# Altium footprint library NXP TSSOP-20.PCBLIB: 1 footprints
Each footprint in its own frame and in the unit in brackets; x right, y up, seen from the top. Pads: shape width x height; smd on the part's side, far side on the other; paste and mask are expansions set on the pad; w line width, h text height; cw(c..) or ccw(c..) is an arc to the next point about the centre after c.
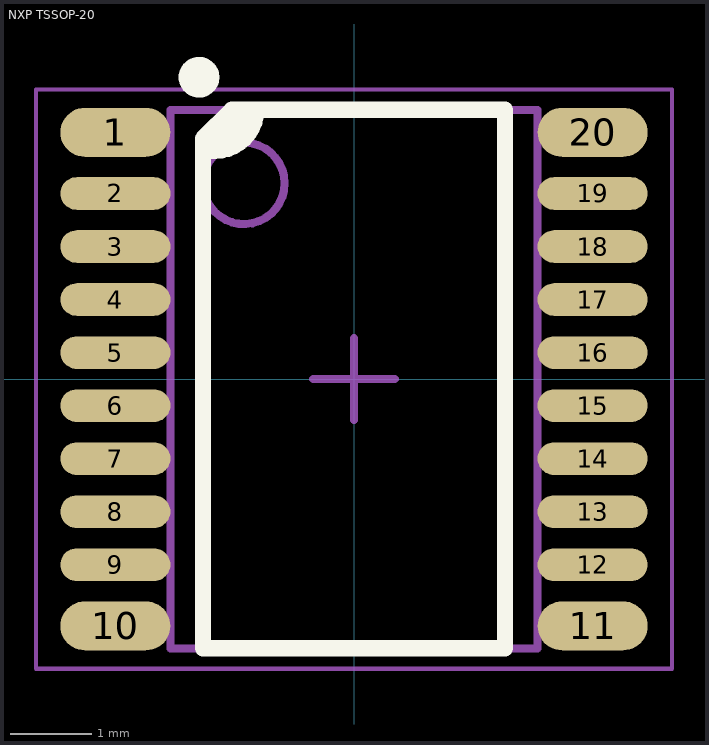
[diagram p0: the footprint, top view; thin cyan lines are the x and y axes]

## NXP TSSOP-20 [mm] "TSSOP, 20-Leads, Body 6.50x4.40mm, Pitch 0.65mm, IPC Medium Density"
height 1.1
pads (20):
  oval 1.35x0.6 smd: 1(-2.925,3.025) 10(-2.925,-3.025) 11(2.925,-3.025) 20(2.925,3.025)
  oval 1.35x0.4 smd: 2(-2.925,2.275) 3(-2.925,1.625) 4(-2.925,0.975) 5(-2.925,0.325) 6(-2.925,-0.325) 7(-2.925,-0.975) 8(-2.925,-1.625) 9(-2.925,-2.275) 12(2.925,-2.275) 13(2.925,-1.625) 14(2.925,-0.975) 15(2.925,-0.325) 16(2.925,0.325) 17(2.925,0.975) 18(2.925,1.625) 19(2.925,2.275)
Top Overlay:
  circle w0.25: c-1.9,3.7 r0.125
  region: -1.5,3.3 -1.2,3.3 -1.2,3.201 -1.276,3.017 -1.417,2.876 -1.601,2.8 -1.7,2.8 -1.8,2.8 -1.8,3
  lines w0.2: -1.8,2.8 -1.7,2.8 ccw(c-1.7,3.3) -1.2,3.3 ; -1.85,-3.3 1.85,-3.3 1.85,3.3 -1.5,3.3 -1.85,2.95 -1.85,-3.3
Mechanical 13:
  circle w0.1: c-1.35,2.4 r0.5
  lines w0.1: -2.25,-3.3 2.25,-3.3 2.25,3.3 -2.25,3.3 -2.25,-3.3
Mechanical 15:
  lines w0.05: -3.9,-3.55 3.9,-3.55 3.9,3.55 -3.9,3.55 -3.9,-3.55
  lines w0.1: -0.5,0 0.5,0 ; 0,-0.5 0,0.5
3D body "TSSOP-20.STEP": height 1.1, standoff 0, extent -3.21,-3.25 3.211,3.25